# Altium schematic symbol library RGB-Cube.SchLib: 2 symbols
Pins are listed as number, name and electrical type; pins without a type are passive.

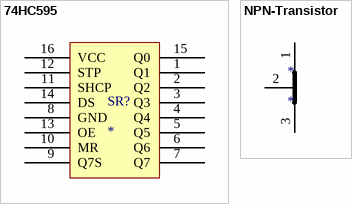
[diagram p0: symbols 74HC595 to NPN-Transistor]

## 74HC595
designator SR?
74HC595 Farnell:  2098004
footprint SOP16
pins: 1 Q1, 2 Q2, 3 Q3, 4 Q4, 5 Q5, 6 Q6, 7 Q7, 8 GND, 9 Q7S, 10 MR, 11 SHCP, 12 STP, 13 OE, 14 DS, 15 Q0, 16 VCC

## NPN-Transistor
designator *
footprint 2N3904 - duplicate (Farnell: 1700648)
pins: 1, 2, 3